# EAGLE library part USB-C_RECEPTACLE (library KVM-Keyboard)
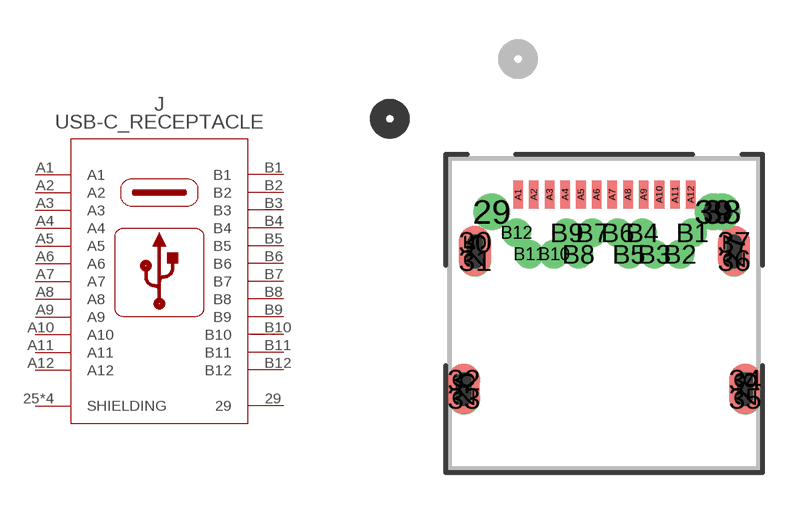
[diagram p8: symbol with the pads of USB-C_RECEPTACLE; footprint USB-C_RECEPTACLE]

Designator prefix J

## USB-C_RECEPTACLE (COPYRIGHT: Copyright (C) 2022 Ultra Librarian. All rights reserved.; DIGI-KEY_PART_NUMBER_1: 2073-USB4056-03-ATR-ND; DIGI-KEY_PART_NUMBER_2: 2073-USB4056-03-ACT-ND; DIGI-KEY_PART_NUMBER_3: 2073-USB4056-03-ADKR-ND; MANUFACTURER_PART_NUMBER: USB4056-03-A; MFR_NAME: Global Connector Technology)  [USB-C_RECEPTACLE]
25  SHIELDING  pas
26  SHIELDING  pas
27  SHIELDING  pas
28  SHIELDING  pas
29  29  pas
A1  A1  pas
A2  A2  pas
A3  A3  pas
A4  A4  pas
A5  A5  pas
A6  A6  pas
A7  A7  pas
A8  A8  pas
A9  A9  pas
A10  A10  pas
A11  A11  pas
A12  A12  pas
B1  B1  pas
B2  B2  pas
B3  B3  pas
B4  B4  pas
B5  B5  pas
B6  B6  pas
B7  B7  pas
B8  B8  pas
B9  B9  pas
B10  B10  pas
B11  B11  pas
B12  B12  pas

## Footprint USB-C_RECEPTACLE (pad centres in mm)
smd 1.016 x 1.6: 25 -1.379,-1.805; 26 -1.739,-6.205; 27 6.881,-1.805; 28 7.241,-6.205
drill 0.66 pad 0.66: 29 -0.838,-0.559; 38 6.502,-0.559; 39 6.223,-0.559
drill 0.508 pad 0.508: 30 -1.372,-1.524; 31 -1.372,-2.108; 32 -1.727,-5.918; 33 -1.727,-6.502; 34 7.239,-5.918; 35 7.239,-6.502; 36 6.883,-2.108; 37 6.883,-1.524
smd 0.305 x 0.889: A1 0,0; A2 0.5,0; A3 1,0; A4 1.5,0; A5 2.001,0; A6 2.501,0; A7 3.001,0; A8 3.501,0; A9 4.001,0; A10 4.501,0; A11 5.001,0; A12 5.501,0
drill 0.406 pad 0.61: B1 5.563,-1.219; B2 5.156,-1.905; B3 4.343,-1.905; B4 3.962,-1.219; B5 3.531,-1.905; B6 3.175,-1.219; B7 2.362,-1.219; B8 1.93,-1.905; B9 1.549,-1.219; B10 1.143,-1.905; B11 0.356,-1.905; B12 -0.051,-1.219